# Altium footprint library Connector_Wire.PcbLib: 326 footprints (part 2 of 21)
Each footprint in its own frame and in the unit in brackets; x right, y up, seen from the top. Pads: shape width x height; smd on the part's side, far side on the other; paste and mask are expansions set on the pad; w line width, h text height; cw(c..) or ccw(c..) is an arc to the next point about the centre after c.
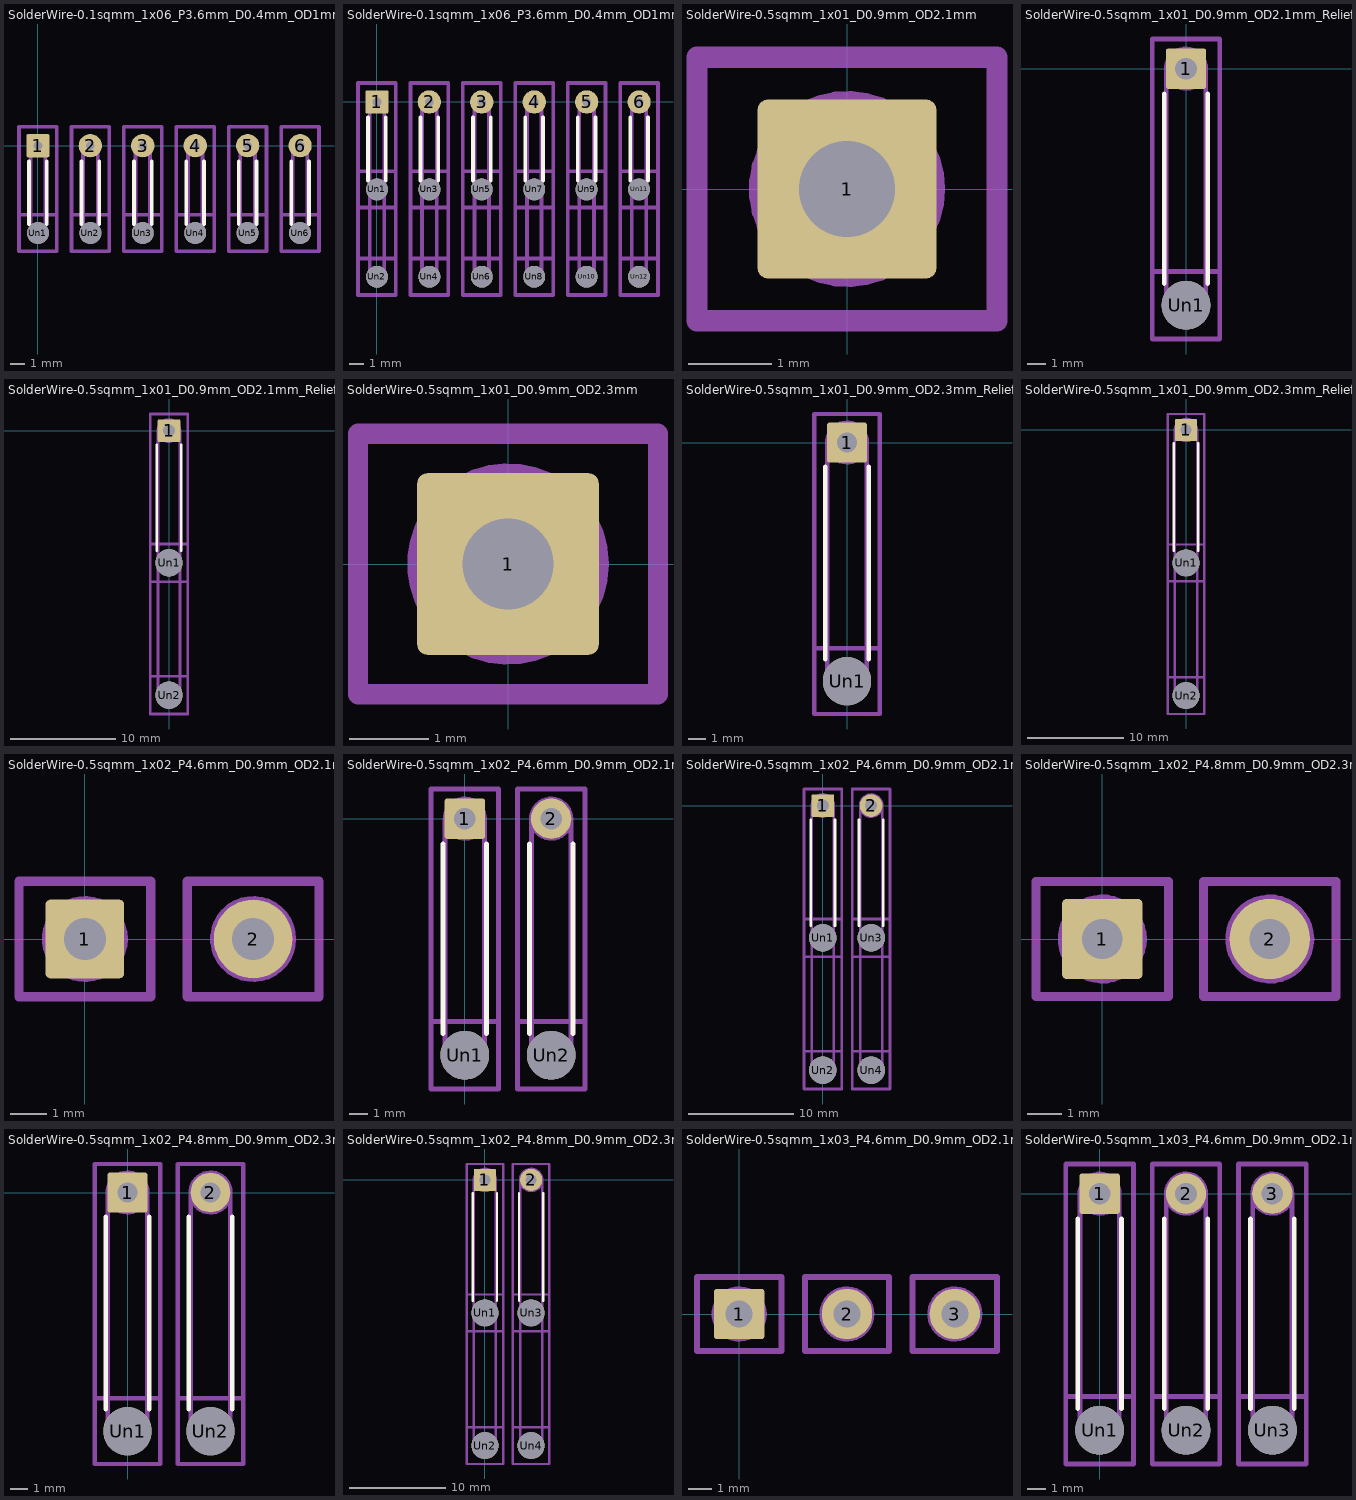
[diagram p1: the footprints below, top view; thin cyan lines are the x and y axes]

## SolderWire-0.1sqmm_1x06_P3.6mm_D0.4mm_OD1mm_Relief [mm]
pads (12):
  rrect16% 1.6x1.6 hole 0.6: 1(0,0)
  round 1.6 hole 0.6: 2(3.6,0) 3(7.2,0) 4(10.8,0) 5(14.4,0) 6(18,0)
  round 1.5 hole 1.5: Un1(0,-6) Un2(3.6,-6) Un3(7.2,-6) Un4(10.8,-6) Un5(14.4,-6) Un6(18,-6)
F.SilkS:
  lines w0.254: -0.61,-5.39 -0.61,-1.06 ; 0.61,-5.39 0.61,-1.06 ; 2.99,-5.39 2.99,-1.06 ; 4.21,-5.39 4.21,-1.06 ; 6.59,-5.39 6.59,-1.06 ; 7.81,-5.39 7.81,-1.06 ; 10.19,-5.39 10.19,-1.06 ; 11.41,-5.39 11.41,-1.06 ; 13.79,-5.39 13.79,-1.06 ; 15.01,-5.39 15.01,-1.06 ; 17.39,-5.39 17.39,-1.06 ; 18.61,-5.39 18.61,-1.06
Top Assembly:
  circle w0.254: c18,-6 r0.5
  circle w0.254: c18,0 r0.5
  circle w0.254: c14.4,-6 r0.5
  circle w0.254: c14.4,0 r0.5
  circle w0.254: c10.8,-6 r0.5
  circle w0.254: c10.8,0 r0.5
  circle w0.254: c7.2,-6 r0.5
  circle w0.254: c7.2,0 r0.5
  circle w0.254: c3.6,-6 r0.5
  circle w0.254: c3.6,0 r0.5
  circle w0.254: c0,-6 r0.5
  circle w0.254: c0,0 r0.5
  lines w0.254: -0.5,-6 -0.5,0 ; 0.5,-6 0.5,0 ; 3.1,-6 3.1,0 ; 4.1,-6 4.1,0 ; 6.7,-6 6.7,0 ; 7.7,-6 7.7,0 ; 10.3,-6 10.3,0 ; 11.3,-6 11.3,0 ; 13.9,-6 13.9,0 ; 14.9,-6 14.9,0 ; 17.5,-6 17.5,0 ; 18.5,-6 18.5,0
  text "'.Designator'" at 9.672,-6.237 h0.8
Top Courtyard:
  lines w0.254: -1.3,-7.25 1.3,-7.25 1.3,1.3 -1.3,1.3 -1.3,-7.25 ; 2.3,-7.25 4.9,-7.25 4.9,1.3 2.3,1.3 2.3,-7.25 ; 5.9,-7.25 8.5,-7.25 8.5,1.3 5.9,1.3 5.9,-7.25 ; 9.5,-7.25 12.1,-7.25 12.1,1.3 9.5,1.3 9.5,-7.25 ; 13.1,-7.25 15.7,-7.25 15.7,1.3 13.1,1.3 13.1,-7.25 ; 16.7,-7.25 19.3,-7.25 19.3,1.3 16.7,1.3 16.7,-7.25
Bottom Courtyard:
  lines w0.254: -1.3,-7.25 1.3,-7.25 1.3,-4.75 -1.3,-4.75 -1.3,-7.25 ; 2.3,-7.25 4.9,-7.25 4.9,-4.75 2.3,-4.75 2.3,-7.25 ; 5.9,-7.25 8.5,-7.25 8.5,-4.75 5.9,-4.75 5.9,-7.25 ; 9.5,-7.25 12.1,-7.25 12.1,-4.75 9.5,-4.75 9.5,-7.25 ; 13.1,-7.25 15.7,-7.25 15.7,-4.75 13.1,-4.75 13.1,-7.25 ; 16.7,-7.25 19.3,-7.25 19.3,-4.75 16.7,-4.75 16.7,-7.25
Top Designator:
  text ".Designator" at 1.382,-3.483 h1.52

## SolderWire-0.1sqmm_1x06_P3.6mm_D0.4mm_OD1mm_Relief2x [mm]
pads (18):
  rrect16% 1.6x1.6 hole 0.6: 1(0,0)
  round 1.6 hole 0.6: 2(3.6,0) 3(7.2,0) 4(10.8,0) 5(14.4,0) 6(18,0)
  round 1.5 hole 1.5: Un1(0,-6) Un2(0,-12) Un3(3.6,-6) Un4(3.6,-12) Un5(7.2,-6) Un6(7.2,-12) Un7(10.8,-6) Un8(10.8,-12) Un9(14.4,-6) Un10(14.4,-12) Un11(18,-6) Un12(18,-12)
F.SilkS:
  lines w0.254: -0.61,-5.39 -0.61,-1.06 ; 0.61,-5.39 0.61,-1.06 ; 2.99,-5.39 2.99,-1.06 ; 4.21,-5.39 4.21,-1.06 ; 6.59,-5.39 6.59,-1.06 ; 7.81,-5.39 7.81,-1.06 ; 10.19,-5.39 10.19,-1.06 ; 11.41,-5.39 11.41,-1.06 ; 13.79,-5.39 13.79,-1.06 ; 15.01,-5.39 15.01,-1.06 ; 17.39,-5.39 17.39,-1.06 ; 18.61,-5.39 18.61,-1.06
B.SilkS:
  lines w0.254: -0.61,-11.39 -0.61,-6.61 ; 0.61,-11.39 0.61,-6.61 ; 2.99,-11.39 2.99,-6.61 ; 4.21,-11.39 4.21,-6.61 ; 6.59,-11.39 6.59,-6.61 ; 7.81,-11.39 7.81,-6.61 ; 10.19,-11.39 10.19,-6.61 ; 11.41,-11.39 11.41,-6.61 ; 13.79,-11.39 13.79,-6.61 ; 15.01,-11.39 15.01,-6.61 ; 17.39,-11.39 17.39,-6.61 ; 18.61,-11.39 18.61,-6.61
Top Assembly:
  circle w0.254: c18,-12 r0.5
  circle w0.254: c18,-6 r0.5
  circle w0.254: c18,0 r0.5
  circle w0.254: c14.4,-12 r0.5
  circle w0.254: c14.4,-6 r0.5
  circle w0.254: c14.4,0 r0.5
  circle w0.254: c10.8,-12 r0.5
  circle w0.254: c10.8,-6 r0.5
  circle w0.254: c10.8,0 r0.5
  circle w0.254: c7.2,-12 r0.5
  circle w0.254: c7.2,-6 r0.5
  circle w0.254: c7.2,0 r0.5
  circle w0.254: c3.6,-12 r0.5
  circle w0.254: c3.6,-6 r0.5
  circle w0.254: c3.6,0 r0.5
  circle w0.254: c0,-12 r0.5
  circle w0.254: c0,-6 r0.5
  circle w0.254: c0,0 r0.5
  lines w0.254: -0.5,-6 -0.5,0 ; 0.5,-6 0.5,0 ; 3.1,-6 3.1,0 ; 4.1,-6 4.1,0 ; 6.7,-6 6.7,0 ; 7.7,-6 7.7,0 ; 10.3,-6 10.3,0 ; 11.3,-6 11.3,0 ; 13.9,-6 13.9,0 ; 14.9,-6 14.9,0 ; 17.5,-6 17.5,0 ; 18.5,-6 18.5,0
  text "'.Designator'" at 9.672,-6.237 h0.8
Bottom Assembly:
  circle w0.254: c18,-12 r0.5
  circle w0.254: c18,-6 r0.5
  circle w0.254: c14.4,-12 r0.5
  circle w0.254: c14.4,-6 r0.5
  circle w0.254: c10.8,-12 r0.5
  circle w0.254: c10.8,-6 r0.5
  circle w0.254: c7.2,-12 r0.5
  circle w0.254: c7.2,-6 r0.5
  circle w0.254: c3.6,-12 r0.5
  circle w0.254: c3.6,-6 r0.5
  circle w0.254: c0,-12 r0.5
  circle w0.254: c0,-6 r0.5
  lines w0.254: -0.5,-12 -0.5,-6 ; 0.5,-12 0.5,-6 ; 3.1,-12 3.1,-6 ; 4.1,-12 4.1,-6 ; 6.7,-12 6.7,-6 ; 7.7,-12 7.7,-6 ; 10.3,-12 10.3,-6 ; 11.3,-12 11.3,-6 ; 13.9,-12 13.9,-6 ; 14.9,-12 14.9,-6 ; 17.5,-12 17.5,-6 ; 18.5,-12 18.5,-6
Top Courtyard:
  lines w0.254: -1.3,-13.25 1.3,-13.25 1.3,-10.75 -1.3,-10.75 -1.3,-13.25 ; -1.3,-7.25 1.3,-7.25 1.3,1.3 -1.3,1.3 -1.3,-7.25 ; 2.3,-13.25 4.9,-13.25 4.9,-10.75 2.3,-10.75 2.3,-13.25 ; 2.3,-7.25 4.9,-7.25 4.9,1.3 2.3,1.3 2.3,-7.25 ; 5.9,-13.25 8.5,-13.25 8.5,-10.75 5.9,-10.75 5.9,-13.25 ; 5.9,-7.25 8.5,-7.25 8.5,1.3 5.9,1.3 5.9,-7.25 ; 9.5,-13.25 12.1,-13.25 12.1,-10.75 9.5,-10.75 9.5,-13.25 ; 9.5,-7.25 12.1,-7.25 12.1,1.3 9.5,1.3 9.5,-7.25 ; 13.1,-13.25 15.7,-13.25 15.7,-10.75 13.1,-10.75 13.1,-13.25 ; 13.1,-7.25 15.7,-7.25 15.7,1.3 13.1,1.3 13.1,-7.25 ; 16.7,-13.25 19.3,-13.25 19.3,-10.75 16.7,-10.75 16.7,-13.25 ; 16.7,-7.25 19.3,-7.25 19.3,1.3 16.7,1.3 16.7,-7.25
Bottom Courtyard:
  lines w0.254: -1.3,-13.25 1.3,-13.25 1.3,-4.75 -1.3,-4.75 -1.3,-13.25 ; 2.3,-13.25 4.9,-13.25 4.9,-4.75 2.3,-4.75 2.3,-13.25 ; 5.9,-13.25 8.5,-13.25 8.5,-4.75 5.9,-4.75 5.9,-13.25 ; 9.5,-13.25 12.1,-13.25 12.1,-4.75 9.5,-4.75 9.5,-13.25 ; 13.1,-13.25 15.7,-13.25 15.7,-4.75 13.1,-4.75 13.1,-13.25 ; 16.7,-13.25 19.3,-13.25 19.3,-4.75 16.7,-4.75 16.7,-13.25
Top Designator:
  text ".Designator" at 1.382,-6.483 h1.52

## SolderWire-0.5sqmm_1x01_D0.9mm_OD2.1mm [mm]
pads (1):
  rrect12% 2.15x2.15 hole 1.15: 1(0,0)
Top Assembly:
  circle w0.254: c0,0 r1.05
  text "'.Designator'" at -2.106,-0.439 h0.52
Top Courtyard:
  lines w0.254: -1.8,-1.58 1.8,-1.58 1.8,1.58 -1.8,1.58 -1.8,-1.58
Top Designator:
  text ".Designator" at -7.698,-0.508 h1.52

## SolderWire-0.5sqmm_1x01_D0.9mm_OD2.1mm_Relief [mm]
pads (2):
  rrect12% 2.15x2.15 hole 1.15: 1(0,0)
  round 2.6 hole 2.6: Un1(0,-12.6)
F.SilkS:
  lines w0.254: -1.16,-11.44 -1.16,-1.335 ; 1.16,-11.44 1.16,-1.335
Top Assembly:
  circle w0.254: c0,-12.6 r1.05
  circle w0.254: c0,0 r1.05
  lines w0.254: -1.05,-12.6 -1.05,0 ; 1.05,-12.6 1.05,0
  text "'.Designator'" at 0.84,-10.347 h1
Top Courtyard:
  lines w0.254: -1.8,-14.4 1.8,-14.4 1.8,1.58 -1.8,1.58 -1.8,-14.4
Bottom Courtyard:
  lines w0.254: -1.8,-14.4 1.8,-14.4 1.8,-10.8 -1.8,-10.8 -1.8,-14.4
Top Designator:
  text ".Designator" at -7.618,-6.918 h1.52

## SolderWire-0.5sqmm_1x01_D0.9mm_OD2.1mm_Relief2x [mm]
pads (3):
  rrect12% 2.15x2.15 hole 1.15: 1(0,0)
  round 2.6 hole 2.6: Un1(0,-12.6) Un2(0,-25.2)
F.SilkS:
  lines w0.254: -1.16,-11.44 -1.16,-1.335 ; 1.16,-11.44 1.16,-1.335
B.SilkS:
  lines w0.254: -1.16,-24.04 -1.16,-13.76 ; 1.16,-24.04 1.16,-13.76
Top Assembly:
  circle w0.254: c0,-25.2 r1.05
  circle w0.254: c0,-12.6 r1.05
  circle w0.254: c0,0 r1.05
  lines w0.254: -1.05,-12.6 -1.05,0 ; 1.05,-12.6 1.05,0
  text "'.Designator'" at 0.84,-10.347 h1
Bottom Assembly:
  circle w0.254: c0,-25.2 r1.05
  circle w0.254: c0,-12.6 r1.05
  lines w0.254: -1.05,-25.2 -1.05,-12.6 ; 1.05,-25.2 1.05,-12.6
Top Courtyard:
  lines w0.254: -1.8,-27 1.8,-27 1.8,-23.4 -1.8,-23.4 -1.8,-27 ; -1.8,-14.4 1.8,-14.4 1.8,1.58 -1.8,1.58 -1.8,-14.4
Bottom Courtyard:
  lines w0.254: -1.8,-27 1.8,-27 1.8,-10.8 -1.8,-10.8 -1.8,-27
Top Designator:
  text ".Designator" at -7.618,-13.218 h1.52

## SolderWire-0.5sqmm_1x01_D0.9mm_OD2.3mm [mm]
pads (1):
  rrect11% 2.3x2.3 hole 1.15: 1(0,0)
Top Assembly:
  circle w0.254: c0,0 r1.15
  text "'.Designator'" at -2.311,-0.483 h0.57
Top Courtyard:
  lines w0.254: -1.9,-1.65 1.9,-1.65 1.9,1.65 -1.9,1.65 -1.9,-1.65
Top Designator:
  text ".Designator" at -7.708,-0.508 h1.52

## SolderWire-0.5sqmm_1x01_D0.9mm_OD2.3mm_Relief [mm]
pads (2):
  rrect11% 2.3x2.3 hole 1.15: 1(0,0)
  round 2.8 hole 2.8: Un1(0,-13.8)
F.SilkS:
  lines w0.254: -1.26,-12.54 -1.26,-1.41 ; 1.26,-12.54 1.26,-1.41
Top Assembly:
  circle w0.254: c0,-13.8 r1.15
  circle w0.254: c0,0 r1.15
  lines w0.254: -1.15,-13.8 -1.15,0 ; 1.15,-13.8 1.15,0
  text "'.Designator'" at 0.84,-10.947 h1
Top Courtyard:
  lines w0.254: -1.9,-15.7 1.9,-15.7 1.9,1.65 -1.9,1.65 -1.9,-15.7
Bottom Courtyard:
  lines w0.254: -1.9,-15.7 1.9,-15.7 1.9,-11.9 -1.9,-11.9 -1.9,-15.7
Top Designator:
  text ".Designator" at -7.618,-7.533 h1.52

## SolderWire-0.5sqmm_1x01_D0.9mm_OD2.3mm_Relief2x [mm]
pads (3):
  rrect11% 2.3x2.3 hole 1.15: 1(0,0)
  round 2.8 hole 2.8: Un1(0,-13.8) Un2(0,-27.6)
F.SilkS:
  lines w0.254: -1.26,-12.54 -1.26,-1.41 ; 1.26,-12.54 1.26,-1.41
B.SilkS:
  lines w0.254: -1.26,-26.34 -1.26,-15.06 ; 1.26,-26.34 1.26,-15.06
Top Assembly:
  circle w0.254: c0,-27.6 r1.15
  circle w0.254: c0,-13.8 r1.15
  circle w0.254: c0,0 r1.15
  lines w0.254: -1.15,-13.8 -1.15,0 ; 1.15,-13.8 1.15,0
  text "'.Designator'" at 0.84,-10.947 h1
Bottom Assembly:
  circle w0.254: c0,-27.6 r1.15
  circle w0.254: c0,-13.8 r1.15
  lines w0.254: -1.15,-27.6 -1.15,-13.8 ; 1.15,-27.6 1.15,-13.8
Top Courtyard:
  lines w0.254: -1.9,-29.5 1.9,-29.5 1.9,-25.7 -1.9,-25.7 -1.9,-29.5 ; -1.9,-15.7 1.9,-15.7 1.9,1.65 -1.9,1.65 -1.9,-15.7
Bottom Courtyard:
  lines w0.254: -1.9,-29.5 1.9,-29.5 1.9,-11.9 -1.9,-11.9 -1.9,-29.5
Top Designator:
  text ".Designator" at -7.618,-14.433 h1.52

## SolderWire-0.5sqmm_1x02_P4.6mm_D0.9mm_OD2.1mm [mm]
pads (2):
  rrect12% 2.15x2.15 hole 1.15: 1(0,0)
  round 2.15 hole 1.15: 2(4.6,0)
Top Assembly:
  circle w0.254: c4.6,0 r1.05
  circle w0.254: c0,0 r1.05
  text "'.Designator'" at 2.965,-3.198 h0.79
Top Courtyard:
  lines w0.254: -1.8,-1.58 1.8,-1.58 1.8,1.58 -1.8,1.58 -1.8,-1.58 ; 2.8,-1.58 6.4,-1.58 6.4,1.58 2.8,1.58 2.8,-1.58
Top Designator:
  text ".Designator" at -5.318,-0.628 h1.52

## SolderWire-0.5sqmm_1x02_P4.6mm_D0.9mm_OD2.1mm_Relief [mm]
pads (4):
  rrect12% 2.15x2.15 hole 1.15: 1(0,0)
  round 2.15 hole 1.15: 2(4.6,0)
  round 2.6 hole 2.6: Un1(0,-12.6) Un2(4.6,-12.6)
F.SilkS:
  lines w0.254: -1.16,-11.44 -1.16,-1.335 ; 1.16,-11.44 1.16,-1.335 ; 3.44,-11.44 3.44,-1.335 ; 5.76,-11.44 5.76,-1.335
Top Assembly:
  circle w0.254: c4.6,-12.6 r1.05
  circle w0.254: c4.6,0 r1.05
  circle w0.254: c0,-12.6 r1.05
  circle w0.254: c0,0 r1.05
  lines w0.254: -1.05,-12.6 -1.05,0 ; 1.05,-12.6 1.05,0 ; 3.55,-12.6 3.55,0 ; 5.65,-12.6 5.65,0
  text "'.Designator'" at 3.14,-10.347 h1
Top Courtyard:
  lines w0.254: -1.8,-14.4 1.8,-14.4 1.8,1.58 -1.8,1.58 -1.8,-14.4 ; 2.8,-14.4 6.4,-14.4 6.4,1.58 2.8,1.58 2.8,-14.4
Bottom Courtyard:
  lines w0.254: -1.8,-14.4 1.8,-14.4 1.8,-10.8 -1.8,-10.8 -1.8,-14.4 ; 2.8,-14.4 6.4,-14.4 6.4,-10.8 2.8,-10.8 2.8,-14.4
Top Designator:
  text ".Designator" at -5.318,-6.918 h1.52

## SolderWire-0.5sqmm_1x02_P4.6mm_D0.9mm_OD2.1mm_Relief2x [mm]
pads (6):
  rrect12% 2.15x2.15 hole 1.15: 1(0,0)
  round 2.15 hole 1.15: 2(4.6,0)
  round 2.6 hole 2.6: Un1(0,-12.6) Un2(0,-25.2) Un3(4.6,-12.6) Un4(4.6,-25.2)
F.SilkS:
  lines w0.254: -1.16,-11.44 -1.16,-1.335 ; 1.16,-11.44 1.16,-1.335 ; 3.44,-11.44 3.44,-1.335 ; 5.76,-11.44 5.76,-1.335
B.SilkS:
  lines w0.254: -1.16,-24.04 -1.16,-13.76 ; 1.16,-24.04 1.16,-13.76 ; 3.44,-24.04 3.44,-13.76 ; 5.76,-24.04 5.76,-13.76
Top Assembly:
  circle w0.254: c4.6,-25.2 r1.05
  circle w0.254: c4.6,-12.6 r1.05
  circle w0.254: c4.6,0 r1.05
  circle w0.254: c0,-25.2 r1.05
  circle w0.254: c0,-12.6 r1.05
  circle w0.254: c0,0 r1.05
  lines w0.254: -1.05,-12.6 -1.05,0 ; 1.05,-12.6 1.05,0 ; 3.55,-12.6 3.55,0 ; 5.65,-12.6 5.65,0
  text "'.Designator'" at 3.14,-10.347 h1
Bottom Assembly:
  circle w0.254: c4.6,-25.2 r1.05
  circle w0.254: c4.6,-12.6 r1.05
  circle w0.254: c0,-25.2 r1.05
  circle w0.254: c0,-12.6 r1.05
  lines w0.254: -1.05,-25.2 -1.05,-12.6 ; 1.05,-25.2 1.05,-12.6 ; 3.55,-25.2 3.55,-12.6 ; 5.65,-25.2 5.65,-12.6
Top Courtyard:
  lines w0.254: -1.8,-27 1.8,-27 1.8,-23.4 -1.8,-23.4 -1.8,-27 ; -1.8,-14.4 1.8,-14.4 1.8,1.58 -1.8,1.58 -1.8,-14.4 ; 2.8,-27 6.4,-27 6.4,-23.4 2.8,-23.4 2.8,-27 ; 2.8,-14.4 6.4,-14.4 6.4,1.58 2.8,1.58 2.8,-14.4
Bottom Courtyard:
  lines w0.254: -1.8,-27 1.8,-27 1.8,-10.8 -1.8,-10.8 -1.8,-27 ; 2.8,-27 6.4,-27 6.4,-10.8 2.8,-10.8 2.8,-27
Top Designator:
  text ".Designator" at -5.318,-13.218 h1.52

## SolderWire-0.5sqmm_1x02_P4.8mm_D0.9mm_OD2.3mm [mm]
pads (2):
  rrect11% 2.3x2.3 hole 1.15: 1(0,0)
  round 2.3 hole 1.15: 2(4.8,0)
Top Assembly:
  circle w0.254: c4.8,0 r1.15
  circle w0.254: c0,0 r1.15
  text "'.Designator'" at 3.086,-3.315 h0.82
Top Courtyard:
  lines w0.254: -1.9,-1.65 1.9,-1.65 1.9,1.65 -1.9,1.65 -1.9,-1.65 ; 2.9,-1.65 6.7,-1.65 6.7,1.65 2.9,1.65 2.9,-1.65
Top Designator:
  text ".Designator" at -5.218,-0.628 h1.52

## SolderWire-0.5sqmm_1x02_P4.8mm_D0.9mm_OD2.3mm_Relief [mm]
pads (4):
  rrect11% 2.3x2.3 hole 1.15: 1(0,0)
  round 2.3 hole 1.15: 2(4.8,0)
  round 2.8 hole 2.8: Un1(0,-13.8) Un2(4.8,-13.8)
F.SilkS:
  lines w0.254: -1.26,-12.54 -1.26,-1.41 ; 1.26,-12.54 1.26,-1.41 ; 3.54,-12.54 3.54,-1.41 ; 6.06,-12.54 6.06,-1.41
Top Assembly:
  circle w0.254: c4.8,-13.8 r1.15
  circle w0.254: c4.8,0 r1.15
  circle w0.254: c0,-13.8 r1.15
  circle w0.254: c0,0 r1.15
  lines w0.254: -1.15,-13.8 -1.15,0 ; 1.15,-13.8 1.15,0 ; 3.65,-13.8 3.65,0 ; 5.95,-13.8 5.95,0
  text "'.Designator'" at 3.24,-10.947 h1
Top Courtyard:
  lines w0.254: -1.9,-15.7 1.9,-15.7 1.9,1.65 -1.9,1.65 -1.9,-15.7 ; 2.9,-15.7 6.7,-15.7 6.7,1.65 2.9,1.65 2.9,-15.7
Bottom Courtyard:
  lines w0.254: -1.9,-15.7 1.9,-15.7 1.9,-11.9 -1.9,-11.9 -1.9,-15.7 ; 2.9,-15.7 6.7,-15.7 6.7,-11.9 2.9,-11.9 2.9,-15.7
Top Designator:
  text ".Designator" at -5.218,-7.533 h1.52

## SolderWire-0.5sqmm_1x02_P4.8mm_D0.9mm_OD2.3mm_Relief2x [mm]
pads (6):
  rrect11% 2.3x2.3 hole 1.15: 1(0,0)
  round 2.3 hole 1.15: 2(4.8,0)
  round 2.8 hole 2.8: Un1(0,-13.8) Un2(0,-27.6) Un3(4.8,-13.8) Un4(4.8,-27.6)
F.SilkS:
  lines w0.254: -1.26,-12.54 -1.26,-1.41 ; 1.26,-12.54 1.26,-1.41 ; 3.54,-12.54 3.54,-1.41 ; 6.06,-12.54 6.06,-1.41
B.SilkS:
  lines w0.254: -1.26,-26.34 -1.26,-15.06 ; 1.26,-26.34 1.26,-15.06 ; 3.54,-26.34 3.54,-15.06 ; 6.06,-26.34 6.06,-15.06
Top Assembly:
  circle w0.254: c4.8,-27.6 r1.15
  circle w0.254: c4.8,-13.8 r1.15
  circle w0.254: c4.8,0 r1.15
  circle w0.254: c0,-27.6 r1.15
  circle w0.254: c0,-13.8 r1.15
  circle w0.254: c0,0 r1.15
  lines w0.254: -1.15,-13.8 -1.15,0 ; 1.15,-13.8 1.15,0 ; 3.65,-13.8 3.65,0 ; 5.95,-13.8 5.95,0
  text "'.Designator'" at 3.24,-10.947 h1
Bottom Assembly:
  circle w0.254: c4.8,-27.6 r1.15
  circle w0.254: c4.8,-13.8 r1.15
  circle w0.254: c0,-27.6 r1.15
  circle w0.254: c0,-13.8 r1.15
  lines w0.254: -1.15,-27.6 -1.15,-13.8 ; 1.15,-27.6 1.15,-13.8 ; 3.65,-27.6 3.65,-13.8 ; 5.95,-27.6 5.95,-13.8
Top Courtyard:
  lines w0.254: -1.9,-29.5 1.9,-29.5 1.9,-25.7 -1.9,-25.7 -1.9,-29.5 ; -1.9,-15.7 1.9,-15.7 1.9,1.65 -1.9,1.65 -1.9,-15.7 ; 2.9,-29.5 6.7,-29.5 6.7,-25.7 2.9,-25.7 2.9,-29.5 ; 2.9,-15.7 6.7,-15.7 6.7,1.65 2.9,1.65 2.9,-15.7
Bottom Courtyard:
  lines w0.254: -1.9,-29.5 1.9,-29.5 1.9,-11.9 -1.9,-11.9 -1.9,-29.5 ; 2.9,-29.5 6.7,-29.5 6.7,-11.9 2.9,-11.9 2.9,-29.5
Top Designator:
  text ".Designator" at -5.218,-14.433 h1.52

## SolderWire-0.5sqmm_1x03_P4.6mm_D0.9mm_OD2.1mm [mm]
pads (3):
  rrect12% 2.15x2.15 hole 1.15: 1(0,0)
  round 2.15 hole 1.15: 2(4.6,0) 3(9.2,0)
Top Assembly:
  circle w0.254: c9.2,0 r1.05
  circle w0.254: c4.6,0 r1.05
  circle w0.254: c0,0 r1.05
  text "'.Designator'" at 5.039,-2.106 h0.52
Top Courtyard:
  lines w0.254: -1.8,-1.58 1.8,-1.58 1.8,1.58 -1.8,1.58 -1.8,-1.58 ; 2.8,-1.58 6.4,-1.58 6.4,1.58 2.8,1.58 2.8,-1.58 ; 7.4,-1.58 11,-1.58 11,1.58 7.4,1.58 7.4,-1.58
Top Designator:
  text ".Designator" at -3.018,-0.588 h1.52

## SolderWire-0.5sqmm_1x03_P4.6mm_D0.9mm_OD2.1mm_Relief [mm]
pads (6):
  rrect12% 2.15x2.15 hole 1.15: 1(0,0)
  round 2.15 hole 1.15: 2(4.6,0) 3(9.2,0)
  round 2.6 hole 2.6: Un1(0,-12.6) Un2(4.6,-12.6) Un3(9.2,-12.6)
F.SilkS:
  lines w0.254: -1.16,-11.44 -1.16,-1.335 ; 1.16,-11.44 1.16,-1.335 ; 3.44,-11.44 3.44,-1.335 ; 5.76,-11.44 5.76,-1.335 ; 8.04,-11.44 8.04,-1.335 ; 10.36,-11.44 10.36,-1.335
Top Assembly:
  circle w0.254: c9.2,-12.6 r1.05
  circle w0.254: c9.2,0 r1.05
  circle w0.254: c4.6,-12.6 r1.05
  circle w0.254: c4.6,0 r1.05
  circle w0.254: c0,-12.6 r1.05
  circle w0.254: c0,0 r1.05
  lines w0.254: -1.05,-12.6 -1.05,0 ; 1.05,-12.6 1.05,0 ; 3.55,-12.6 3.55,0 ; 5.65,-12.6 5.65,0 ; 8.15,-12.6 8.15,0 ; 10.25,-12.6 10.25,0
  text "'.Designator'" at 5.44,-10.347 h1
Top Courtyard:
  lines w0.254: -1.8,-14.4 1.8,-14.4 1.8,1.58 -1.8,1.58 -1.8,-14.4 ; 2.8,-14.4 6.4,-14.4 6.4,1.58 2.8,1.58 2.8,-14.4 ; 7.4,-14.4 11,-14.4 11,1.58 7.4,1.58 7.4,-14.4
Bottom Courtyard:
  lines w0.254: -1.8,-14.4 1.8,-14.4 1.8,-10.8 -1.8,-10.8 -1.8,-14.4 ; 2.8,-14.4 6.4,-14.4 6.4,-10.8 2.8,-10.8 2.8,-14.4 ; 7.4,-14.4 11,-14.4 11,-10.8 7.4,-10.8 7.4,-14.4
Top Designator:
  text ".Designator" at -3.018,-6.918 h1.52